# Altium integrated library Circuit Protection -TVSP_rev15a (1).intlib: 320 symbols (part 2 of 4)
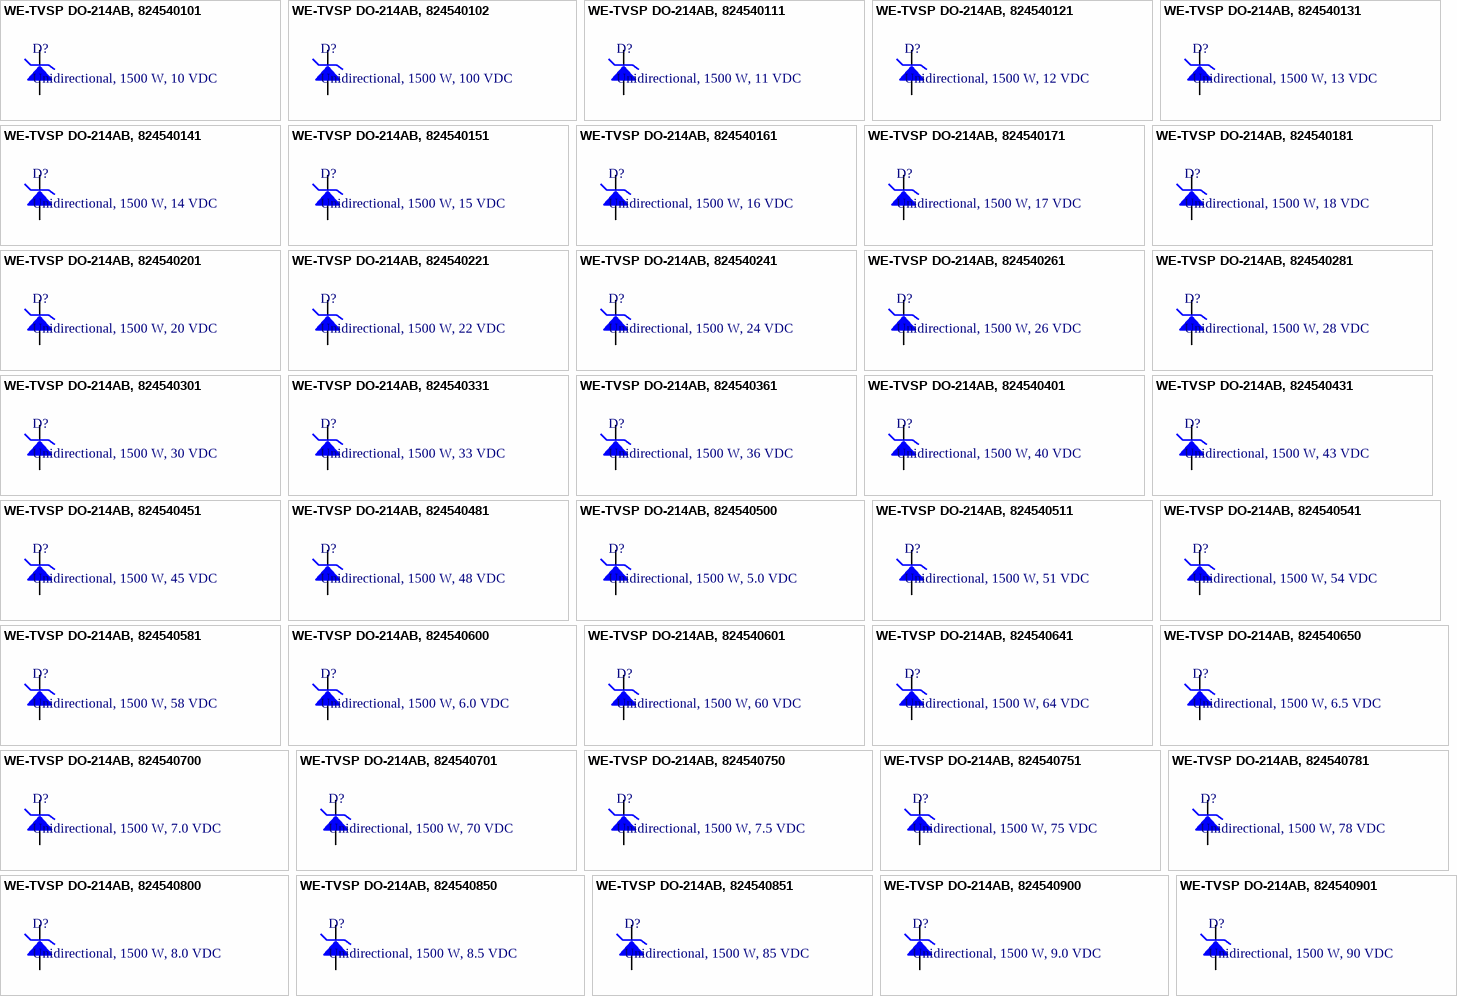
[diagram p8: symbols WE-TVSP DO-214AB, 824540101 to WE-TVSP DO-214AB, 824540901]

## WE-TVSP DO-214AB, 824540500
designator D?, comment Unidirectional, 1500 W, 5.0 VDC
WE-TVSP Power TVS Diode, Unidirectional, 1500 W, 5.0 VDC; partNo: 824540500; Manufacturer: Wurth Elektronik; ComponentLink1Description: Manufacturer; ComponentLink1URL: http://www.we-online.de; Created by: Baojun Chen; Created Date: Nov.2015; ComponentLink2Description: Datasheet; ComponentLink2URL: http://katalog.we-online.de/pbs/datasheet/824540500.pdf
footprint DO-214AB_Unidirectional
pins: 1, 2

## WE-TVSP DO-214AB, 824540511
designator D?, comment Unidirectional, 1500 W, 51 VDC
WE-TVSP Power TVS Diode, Unidirectional, 1500 W, 51 VDC; partNo: 824540511; Manufacturer: Wurth Elektronik; ComponentLink1Description: Manufacturer; ComponentLink1URL: http://www.we-online.de; Created by: Baojun Chen; Created Date: Nov.2015; ComponentLink2Description: Datasheet; ComponentLink2URL: http://katalog.we-online.de/pbs/datasheet/824540511.pdf
footprint DO-214AB_Unidirectional
pins: 1, 2

## WE-TVSP DO-214AB, 824540541
designator D?, comment Unidirectional, 1500 W, 54 VDC
WE-TVSP Power TVS Diode, Unidirectional, 1500 W, 54 VDC; partNo: 824540541; Manufacturer: Wurth Elektronik; ComponentLink1Description: Manufacturer; ComponentLink1URL: http://www.we-online.de; Created by: Baojun Chen; Created Date: Nov.2015; ComponentLink2Description: Datasheet; ComponentLink2URL: http://katalog.we-online.de/pbs/datasheet/824540541.pdf
footprint DO-214AB_Unidirectional
pins: 1, 2

## WE-TVSP DO-214AB, 824540581
designator D?, comment Unidirectional, 1500 W, 58 VDC
WE-TVSP Power TVS Diode, Unidirectional, 1500 W, 58 VDC; partNo: 824540581; Manufacturer: Wurth Elektronik; ComponentLink1Description: Manufacturer; ComponentLink1URL: http://www.we-online.de; Created by: Baojun Chen; Created Date: Nov.2015; ComponentLink2Description: Datasheet; ComponentLink2URL: http://katalog.we-online.de/pbs/datasheet/824540581.pdf
footprint DO-214AB_Unidirectional
pins: 1, 2

## WE-TVSP DO-214AB, 824540600
designator D?, comment Unidirectional, 1500 W, 6.0 VDC
WE-TVSP Power TVS Diode, Unidirectional, 1500 W, 6.0 VDC; partNo: 824540600; Manufacturer: Wurth Elektronik; ComponentLink1Description: Manufacturer; ComponentLink1URL: http://www.we-online.de; Created by: Baojun Chen; Created Date: Nov.2015; ComponentLink2Description: Datasheet; ComponentLink2URL: http://katalog.we-online.de/pbs/datasheet/824540600.pdf
footprint DO-214AB_Unidirectional
pins: 1, 2

## WE-TVSP DO-214AB, 824540601
designator D?, comment Unidirectional, 1500 W, 60 VDC
WE-TVSP Power TVS Diode, Unidirectional, 1500 W, 60 VDC; partNo: 824540601; Manufacturer: Wurth Elektronik; ComponentLink1Description: Manufacturer; ComponentLink1URL: http://www.we-online.de; Created by: Baojun Chen; Created Date: Nov.2015; ComponentLink2Description: Datasheet; ComponentLink2URL: http://katalog.we-online.de/pbs/datasheet/824540601.pdf
footprint DO-214AB_Unidirectional
pins: 1, 2

## WE-TVSP DO-214AB, 824540641
designator D?, comment Unidirectional, 1500 W, 64 VDC
WE-TVSP Power TVS Diode, Unidirectional, 1500 W, 64 VDC; partNo: 824540641; Manufacturer: Wurth Elektronik; ComponentLink1Description: Manufacturer; ComponentLink1URL: http://www.we-online.de; Created by: Baojun Chen; Created Date: Nov.2015; ComponentLink2Description: Datasheet; ComponentLink2URL: http://katalog.we-online.de/pbs/datasheet/824540641.pdf
footprint DO-214AB_Unidirectional
pins: 1, 2

## WE-TVSP DO-214AB, 824540650
designator D?, comment Unidirectional, 1500 W, 6.5 VDC
WE-TVSP Power TVS Diode, Unidirectional, 1500 W, 6.5 VDC; partNo: 824540650; Manufacturer: Wurth Elektronik; ComponentLink1Description: Manufacturer; ComponentLink1URL: http://www.we-online.de; Created by: Baojun Chen; Created Date: Nov.2015; ComponentLink2Description: Datasheet; ComponentLink2URL: http://katalog.we-online.de/pbs/datasheet/824540650.pdf
footprint DO-214AB_Unidirectional
pins: 1, 2

## WE-TVSP DO-214AB, 824540700
designator D?, comment Unidirectional, 1500 W, 7.0 VDC
WE-TVSP Power TVS Diode, Unidirectional, 1500 W, 7.0 VDC; partNo: 824540700; Manufacturer: Wurth Elektronik; ComponentLink1Description: Manufacturer; ComponentLink1URL: http://www.we-online.de; Created by: Baojun Chen; Created Date: Nov.2015; ComponentLink2Description: Datasheet; ComponentLink2URL: http://katalog.we-online.de/pbs/datasheet/824540700.pdf
footprint DO-214AB_Unidirectional
pins: 1, 2

## WE-TVSP DO-214AB, 824540701
designator D?, comment Unidirectional, 1500 W, 70 VDC
WE-TVSP Power TVS Diode, Unidirectional, 1500 W, 70 VDC; partNo: 824540701; Manufacturer: Wurth Elektronik; ComponentLink1Description: Manufacturer; ComponentLink1URL: http://www.we-online.de; Created by: Baojun Chen; Created Date: Nov.2015; ComponentLink2Description: Datasheet; ComponentLink2URL: http://katalog.we-online.de/pbs/datasheet/824540701.pdf
footprint DO-214AB_Unidirectional
pins: 1, 2

## WE-TVSP DO-214AB, 824540750
designator D?, comment Unidirectional, 1500 W, 7.5 VDC
WE-TVSP Power TVS Diode, Unidirectional, 1500 W, 7.5 VDC; partNo: 824540750; Manufacturer: Wurth Elektronik; ComponentLink1Description: Manufacturer; ComponentLink1URL: http://www.we-online.de; Created by: Baojun Chen; Created Date: Nov.2015; ComponentLink2Description: Datasheet; ComponentLink2URL: http://katalog.we-online.de/pbs/datasheet/824540750.pdf
footprint DO-214AB_Unidirectional
pins: 1, 2

## WE-TVSP DO-214AB, 824540751
designator D?, comment Unidirectional, 1500 W, 75 VDC
WE-TVSP Power TVS Diode, Unidirectional, 1500 W, 75 VDC; partNo: 824540751; Manufacturer: Wurth Elektronik; ComponentLink1Description: Manufacturer; ComponentLink1URL: http://www.we-online.de; Created by: Baojun Chen; Created Date: Nov.2015; ComponentLink2Description: Datasheet; ComponentLink2URL: http://katalog.we-online.de/pbs/datasheet/824540751.pdf
footprint DO-214AB_Unidirectional
pins: 1, 2

## WE-TVSP DO-214AB, 824540781
designator D?, comment Unidirectional, 1500 W, 78 VDC
WE-TVSP Power TVS Diode, Unidirectional, 1500 W, 78 VDC; partNo: 824540781; Manufacturer: Wurth Elektronik; ComponentLink1Description: Manufacturer; ComponentLink1URL: http://www.we-online.de; Created by: Baojun Chen; Created Date: Nov.2015; ComponentLink2Description: Datasheet; ComponentLink2URL: http://katalog.we-online.de/pbs/datasheet/824540781.pdf
footprint DO-214AB_Unidirectional
pins: 1, 2

## WE-TVSP DO-214AB, 824540800
designator D?, comment Unidirectional, 1500 W, 8.0 VDC
WE-TVSP Power TVS Diode, Unidirectional, 1500 W, 8.0 VDC; partNo: 824540800; Manufacturer: Wurth Elektronik; ComponentLink1Description: Manufacturer; ComponentLink1URL: http://www.we-online.de; Created by: Baojun Chen; Created Date: Nov.2015; ComponentLink2Description: Datasheet; ComponentLink2URL: http://katalog.we-online.de/pbs/datasheet/824540800.pdf
footprint DO-214AB_Unidirectional
pins: 1, 2

## WE-TVSP DO-214AB, 824540850
designator D?, comment Unidirectional, 1500 W, 8.5 VDC
WE-TVSP Power TVS Diode, Unidirectional, 1500 W, 8.5 VDC; partNo: 824540850; Manufacturer: Wurth Elektronik; ComponentLink1Description: Manufacturer; ComponentLink1URL: http://www.we-online.de; Created by: Baojun Chen; Created Date: Nov.2015; ComponentLink2Description: Datasheet; ComponentLink2URL: http://katalog.we-online.de/pbs/datasheet/824540850.pdf
footprint DO-214AB_Unidirectional
pins: 1, 2

## WE-TVSP DO-214AB, 824540851
designator D?, comment Unidirectional, 1500 W, 85 VDC
WE-TVSP Power TVS Diode, Unidirectional, 1500 W, 85 VDC; partNo: 824540851; Manufacturer: Wurth Elektronik; ComponentLink1Description: Manufacturer; ComponentLink1URL: http://www.we-online.de; Created by: Baojun Chen; Created Date: Nov.2015; ComponentLink2Description: Datasheet; ComponentLink2URL: http://katalog.we-online.de/pbs/datasheet/824540851.pdf
footprint DO-214AB_Unidirectional
pins: 1, 2

## WE-TVSP DO-214AB, 824540900
designator D?, comment Unidirectional, 1500 W, 9.0 VDC
WE-TVSP Power TVS Diode, Unidirectional, 1500 W, 9.0 VDC; partNo: 824540900; Manufacturer: Wurth Elektronik; ComponentLink1Description: Manufacturer; ComponentLink1URL: http://www.we-online.de; Created by: Baojun Chen; Created Date: Nov.2015; ComponentLink2Description: Datasheet; ComponentLink2URL: http://katalog.we-online.de/pbs/datasheet/824540900.pdf
footprint DO-214AB_Unidirectional
pins: 1, 2

## WE-TVSP DO-214AB, 824540901
designator D?, comment Unidirectional, 1500 W, 90 VDC
WE-TVSP Power TVS Diode, Unidirectional, 1500 W, 90 VDC; partNo: 824540901; Manufacturer: Wurth Elektronik; ComponentLink1Description: Manufacturer; ComponentLink1URL: http://www.we-online.de; Created by: Baojun Chen; Created Date: Nov.2015; ComponentLink2Description: Datasheet; ComponentLink2URL: http://katalog.we-online.de/pbs/datasheet/824540901.pdf
footprint DO-214AB_Unidirectional
pins: 1, 2


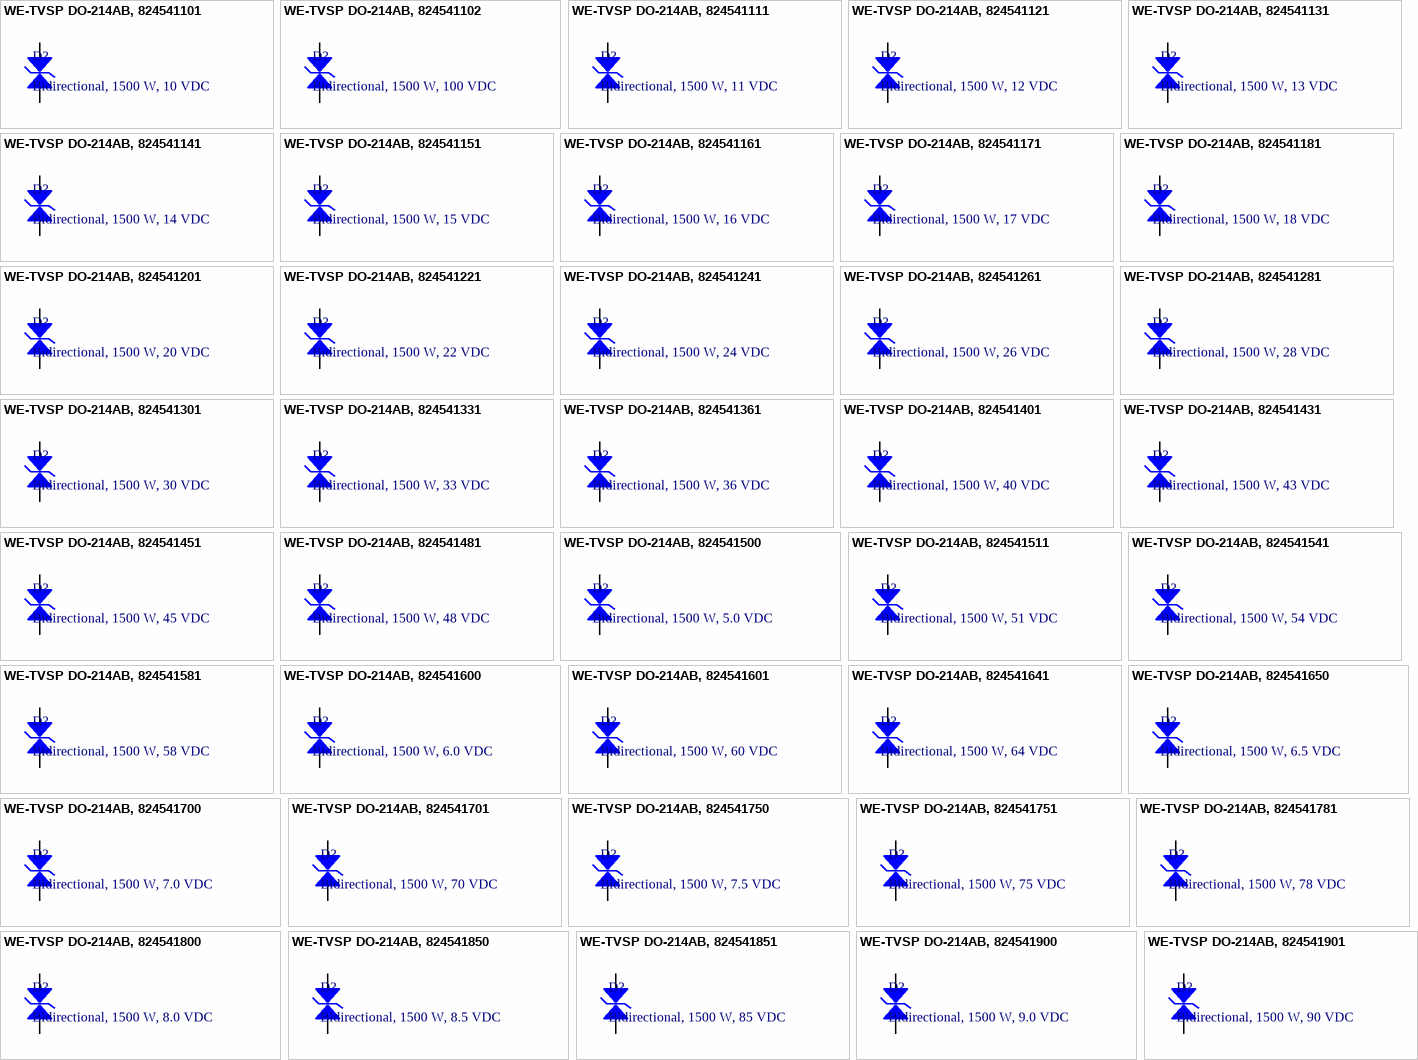
[diagram p3: symbols WE-TVSP DO-214AB, 824541101 to WE-TVSP DO-214AB, 824541901]

## WE-TVSP DO-214AB, 824541101
designator D?, comment Bidirectional, 1500 W, 10 VDC
WE-TVSP Power TVS Diode, bidirectional, 1500 W, 10 VDC; partNo: 824541101; Manufacturer: Wurth Elektronik; ComponentLink1Description: Manufacturer; ComponentLink1URL: http://www.we-online.de; Created by: Baojun Chen; Created Date: Nov.2015; ComponentLink2Description: Datasheet; ComponentLink2URL: http://katalog.we-online.de/pbs/datasheet/824541101.pdf
footprint DO-214AB_Bidirectional
pins: 1, 2

## WE-TVSP DO-214AB, 824541102
designator D?, comment Bidirectional, 1500 W, 100 VDC
WE-TVSP Power TVS Diode, bidirectional, 1500 W, 100 VDC; partNo: 824541102; Manufacturer: Wurth Elektronik; ComponentLink1Description: Manufacturer; ComponentLink1URL: http://www.we-online.de; Created by: Baojun Chen; Created Date: Nov.2015; ComponentLink2Description: Datasheet; ComponentLink2URL: http://katalog.we-online.de/pbs/datasheet/824541102.pdf
footprint DO-214AB_Bidirectional
pins: 1, 2

## WE-TVSP DO-214AB, 824541111
designator D?, comment Bidirectional, 1500 W, 11 VDC
WE-TVSP Power TVS Diode, bidirectional, 1500 W, 11 VDC; partNo: 824541111; Manufacturer: Wurth Elektronik; ComponentLink1Description: Manufacturer; ComponentLink1URL: http://www.we-online.de; Created by: Baojun Chen; Created Date: Nov.2015; ComponentLink2Description: Datasheet; ComponentLink2URL: http://katalog.we-online.de/pbs/datasheet/824541111.pdf
footprint DO-214AB_Bidirectional
pins: 1, 2

## WE-TVSP DO-214AB, 824541121
designator D?, comment Bidirectional, 1500 W, 12 VDC
WE-TVSP Power TVS Diode, bidirectional, 1500 W, 12 VDC; partNo: 824541121; Manufacturer: Wurth Elektronik; ComponentLink1Description: Manufacturer; ComponentLink1URL: http://www.we-online.de; Created by: Baojun Chen; Created Date: Nov.2015; ComponentLink2Description: Datasheet; ComponentLink2URL: http://katalog.we-online.de/pbs/datasheet/824541121.pdf
footprint DO-214AB_Bidirectional
pins: 1, 2

## WE-TVSP DO-214AB, 824541131
designator D?, comment Bidirectional, 1500 W, 13 VDC
WE-TVSP Power TVS Diode, bidirectional, 1500 W, 13 VDC; partNo: 824541131; Manufacturer: Wurth Elektronik; ComponentLink1Description: Manufacturer; ComponentLink1URL: http://www.we-online.de; Created by: Baojun Chen; Created Date: Nov.2015; ComponentLink2Description: Datasheet; ComponentLink2URL: http://katalog.we-online.de/pbs/datasheet/824541131.pdf
footprint DO-214AB_Bidirectional
pins: 1, 2

## WE-TVSP DO-214AB, 824541141
designator D?, comment Bidirectional, 1500 W, 14 VDC
WE-TVSP Power TVS Diode, bidirectional, 1500 W, 14 VDC; partNo: 824541141; Manufacturer: Wurth Elektronik; ComponentLink1Description: Manufacturer; ComponentLink1URL: http://www.we-online.de; Created by: Baojun Chen; Created Date: Nov.2015; ComponentLink2Description: Datasheet; ComponentLink2URL: http://katalog.we-online.de/pbs/datasheet/824541141.pdf
footprint DO-214AB_Bidirectional
pins: 1, 2

## WE-TVSP DO-214AB, 824541151
designator D?, comment Bidirectional, 1500 W, 15 VDC
WE-TVSP Power TVS Diode, bidirectional, 1500 W, 15 VDC; partNo: 824541151; Manufacturer: Wurth Elektronik; ComponentLink1Description: Manufacturer; ComponentLink1URL: http://www.we-online.de; Created by: Baojun Chen; Created Date: Nov.2015; ComponentLink2Description: Datasheet; ComponentLink2URL: http://katalog.we-online.de/pbs/datasheet/824541151.pdf
footprint DO-214AB_Bidirectional
pins: 1, 2

## WE-TVSP DO-214AB, 824541161
designator D?, comment Bidirectional, 1500 W, 16 VDC
WE-TVSP Power TVS Diode, bidirectional, 1500 W, 16 VDC; partNo: 824541161; Manufacturer: Wurth Elektronik; ComponentLink1Description: Manufacturer; ComponentLink1URL: http://www.we-online.de; Created by: Baojun Chen; Created Date: Nov.2015; ComponentLink2Description: Datasheet; ComponentLink2URL: http://katalog.we-online.de/pbs/datasheet/824541161.pdf
footprint DO-214AB_Bidirectional
pins: 1, 2

## WE-TVSP DO-214AB, 824541171
designator D?, comment Bidirectional, 1500 W, 17 VDC
WE-TVSP Power TVS Diode, bidirectional, 1500 W, 17 VDC; partNo: 824541171; Manufacturer: Wurth Elektronik; ComponentLink1Description: Manufacturer; ComponentLink1URL: http://www.we-online.de; Created by: Baojun Chen; Created Date: Nov.2015; ComponentLink2Description: Datasheet; ComponentLink2URL: http://katalog.we-online.de/pbs/datasheet/824541171.pdf
footprint DO-214AB_Bidirectional
pins: 1, 2

## WE-TVSP DO-214AB, 824541181
designator D?, comment Bidirectional, 1500 W, 18 VDC
WE-TVSP Power TVS Diode, bidirectional, 1500 W, 18 VDC; partNo: 824541181; Manufacturer: Wurth Elektronik; ComponentLink1Description: Manufacturer; ComponentLink1URL: http://www.we-online.de; Created by: Baojun Chen; Created Date: Nov.2015; ComponentLink2Description: Datasheet; ComponentLink2URL: http://katalog.we-online.de/pbs/datasheet/824541181.pdf
footprint DO-214AB_Bidirectional
pins: 1, 2

## WE-TVSP DO-214AB, 824541201
designator D?, comment Bidirectional, 1500 W, 20 VDC
WE-TVSP Power TVS Diode, bidirectional, 1500 W, 20 VDC; partNo: 824541201; Manufacturer: Wurth Elektronik; ComponentLink1Description: Manufacturer; ComponentLink1URL: http://www.we-online.de; Created by: Baojun Chen; Created Date: Nov.2015; ComponentLink2Description: Datasheet; ComponentLink2URL: http://katalog.we-online.de/pbs/datasheet/824541201.pdf
footprint DO-214AB_Bidirectional
pins: 1, 2

## WE-TVSP DO-214AB, 824541221
designator D?, comment Bidirectional, 1500 W, 22 VDC
WE-TVSP Power TVS Diode, bidirectional, 1500 W, 22 VDC; partNo: 824541221; Manufacturer: Wurth Elektronik; ComponentLink1Description: Manufacturer; ComponentLink1URL: http://www.we-online.de; Created by: Baojun Chen; Created Date: Nov.2015; ComponentLink2Description: Datasheet; ComponentLink2URL: http://katalog.we-online.de/pbs/datasheet/824541221.pdf
footprint DO-214AB_Bidirectional
pins: 1, 2

## WE-TVSP DO-214AB, 824541241
designator D?, comment Bidirectional, 1500 W, 24 VDC
WE-TVSP Power TVS Diode, bidirectional, 1500 W, 24 VDC; partNo: 824541241; Manufacturer: Wurth Elektronik; ComponentLink1Description: Manufacturer; ComponentLink1URL: http://www.we-online.de; Created by: Baojun Chen; Created Date: Nov.2015; ComponentLink2Description: Datasheet; ComponentLink2URL: http://katalog.we-online.de/pbs/datasheet/824541241.pdf
footprint DO-214AB_Bidirectional
pins: 1, 2

## WE-TVSP DO-214AB, 824541261
designator D?, comment Bidirectional, 1500 W, 26 VDC
WE-TVSP Power TVS Diode, bidirectional, 1500 W, 26 VDC; partNo: 824541261; Manufacturer: Wurth Elektronik; ComponentLink1Description: Manufacturer; ComponentLink1URL: http://www.we-online.de; Created by: Baojun Chen; Created Date: Nov.2015; ComponentLink2Description: Datasheet; ComponentLink2URL: http://katalog.we-online.de/pbs/datasheet/824541261.pdf
footprint DO-214AB_Bidirectional
pins: 1, 2

## WE-TVSP DO-214AB, 824541281
designator D?, comment Bidirectional, 1500 W, 28 VDC
WE-TVSP Power TVS Diode, bidirectional, 1500 W, 28 VDC; partNo: 824541281; Manufacturer: Wurth Elektronik; ComponentLink1Description: Manufacturer; ComponentLink1URL: http://www.we-online.de; Created by: Baojun Chen; Created Date: Nov.2015; ComponentLink2Description: Datasheet; ComponentLink2URL: http://katalog.we-online.de/pbs/datasheet/824541281.pdf
footprint DO-214AB_Bidirectional
pins: 1, 2

## WE-TVSP DO-214AB, 824541301
designator D?, comment Bidirectional, 1500 W, 30 VDC
WE-TVSP Power TVS Diode, bidirectional, 1500 W, 30 VDC; partNo: 824541301; Manufacturer: Wurth Elektronik; ComponentLink1Description: Manufacturer; ComponentLink1URL: http://www.we-online.de; Created by: Baojun Chen; Created Date: Nov.2015; ComponentLink2Description: Datasheet; ComponentLink2URL: http://katalog.we-online.de/pbs/datasheet/824541301.pdf
footprint DO-214AB_Bidirectional
pins: 1, 2

## WE-TVSP DO-214AB, 824541331
designator D?, comment Bidirectional, 1500 W, 33 VDC
WE-TVSP Power TVS Diode, bidirectional, 1500 W, 33 VDC; partNo: 824541331; Manufacturer: Wurth Elektronik; ComponentLink1Description: Manufacturer; ComponentLink1URL: http://www.we-online.de; Created by: Baojun Chen; Created Date: Nov.2015; ComponentLink2Description: Datasheet; ComponentLink2URL: http://katalog.we-online.de/pbs/datasheet/824541331.pdf
footprint DO-214AB_Bidirectional
pins: 1, 2

## WE-TVSP DO-214AB, 824541361
designator D?, comment Bidirectional, 1500 W, 36 VDC
WE-TVSP Power TVS Diode, bidirectional, 1500 W, 36 VDC; partNo: 824541361; Manufacturer: Wurth Elektronik; ComponentLink1Description: Manufacturer; ComponentLink1URL: http://www.we-online.de; Created by: Baojun Chen; Created Date: Nov.2015; ComponentLink2Description: Datasheet; ComponentLink2URL: http://katalog.we-online.de/pbs/datasheet/824541361.pdf
footprint DO-214AB_Bidirectional
pins: 1, 2

## WE-TVSP DO-214AB, 824541401
designator D?, comment Bidirectional, 1500 W, 40 VDC
WE-TVSP Power TVS Diode, bidirectional, 1500 W, 40 VDC; partNo: 824541401; Manufacturer: Wurth Elektronik; ComponentLink1Description: Manufacturer; ComponentLink1URL: http://www.we-online.de; Created by: Baojun Chen; Created Date: Nov.2015; ComponentLink2Description: Datasheet; ComponentLink2URL: http://katalog.we-online.de/pbs/datasheet/824541401.pdf
footprint DO-214AB_Bidirectional
pins: 1, 2

## WE-TVSP DO-214AB, 824541431
designator D?, comment Bidirectional, 1500 W, 43 VDC
WE-TVSP Power TVS Diode, bidirectional, 1500 W, 43 VDC; partNo: 824541431; Manufacturer: Wurth Elektronik; ComponentLink1Description: Manufacturer; ComponentLink1URL: http://www.we-online.de; Created by: Baojun Chen; Created Date: Nov.2015; ComponentLink2Description: Datasheet; ComponentLink2URL: http://katalog.we-online.de/pbs/datasheet/824541431.pdf
footprint DO-214AB_Bidirectional
pins: 1, 2

## WE-TVSP DO-214AB, 824541451
designator D?, comment Bidirectional, 1500 W, 45 VDC
WE-TVSP Power TVS Diode, bidirectional, 1500 W, 45 VDC; partNo: 824541451; Manufacturer: Wurth Elektronik; ComponentLink1Description: Manufacturer; ComponentLink1URL: http://www.we-online.de; Created by: Baojun Chen; Created Date: Nov.2015; ComponentLink2Description: Datasheet; ComponentLink2URL: http://katalog.we-online.de/pbs/datasheet/824541451.pdf
footprint DO-214AB_Bidirectional
pins: 1, 2

## WE-TVSP DO-214AB, 824541481
designator D?, comment Bidirectional, 1500 W, 48 VDC
WE-TVSP Power TVS Diode, bidirectional, 1500 W, 48 VDC; partNo: 824541481; Manufacturer: Wurth Elektronik; ComponentLink1Description: Manufacturer; ComponentLink1URL: http://www.we-online.de; Created by: Baojun Chen; Created Date: Nov.2015; ComponentLink2Description: Datasheet; ComponentLink2URL: http://katalog.we-online.de/pbs/datasheet/824541481.pdf
footprint DO-214AB_Bidirectional
pins: 1, 2

## WE-TVSP DO-214AB, 824541500
designator D?, comment Bidirectional, 1500 W, 5.0 VDC
WE-TVSP Power TVS Diode, bidirectional, 1500 W, 5.0 VDC; partNo: 824541500; Manufacturer: Wurth Elektronik; ComponentLink1Description: Manufacturer; ComponentLink1URL: http://www.we-online.de; Created by: Baojun Chen; Created Date: Nov.2015; ComponentLink2Description: Datasheet; ComponentLink2URL: http://katalog.we-online.de/pbs/datasheet/824541500.pdf
footprint DO-214AB_Bidirectional
pins: 1, 2

## WE-TVSP DO-214AB, 824541511
designator D?, comment Bidirectional, 1500 W, 51 VDC
WE-TVSP Power TVS Diode, bidirectional, 1500 W, 51 VDC; partNo: 824541511; Manufacturer: Wurth Elektronik; ComponentLink1Description: Manufacturer; ComponentLink1URL: http://www.we-online.de; Created by: Baojun Chen; Created Date: Nov.2015; ComponentLink2Description: Datasheet; ComponentLink2URL: http://katalog.we-online.de/pbs/datasheet/824541511.pdf
footprint DO-214AB_Bidirectional
pins: 1, 2

## WE-TVSP DO-214AB, 824541541
designator D?, comment Bidirectional, 1500 W, 54 VDC
WE-TVSP Power TVS Diode, bidirectional, 1500 W, 54 VDC; partNo: 824541541; Manufacturer: Wurth Elektronik; ComponentLink1Description: Manufacturer; ComponentLink1URL: http://www.we-online.de; Created by: Baojun Chen; Created Date: Nov.2015; ComponentLink2Description: Datasheet; ComponentLink2URL: http://katalog.we-online.de/pbs/datasheet/824541541.pdf
footprint DO-214AB_Bidirectional
pins: 1, 2

## WE-TVSP DO-214AB, 824541581
designator D?, comment Bidirectional, 1500 W, 58 VDC
WE-TVSP Power TVS Diode, bidirectional, 1500 W, 58 VDC; partNo: 824541581; Manufacturer: Wurth Elektronik; ComponentLink1Description: Manufacturer; ComponentLink1URL: http://www.we-online.de; Created by: Baojun Chen; Created Date: Nov.2015; ComponentLink2Description: Datasheet; ComponentLink2URL: http://katalog.we-online.de/pbs/datasheet/824541581.pdf
footprint DO-214AB_Bidirectional
pins: 1, 2

## WE-TVSP DO-214AB, 824541600
designator D?, comment Bidirectional, 1500 W, 6.0 VDC
WE-TVSP Power TVS Diode, bidirectional, 1500 W, 6.0 VDC; partNo: 824541600; Manufacturer: Wurth Elektronik; ComponentLink1Description: Manufacturer; ComponentLink1URL: http://www.we-online.de; Created by: Baojun Chen; Created Date: Nov.2015; ComponentLink2Description: Datasheet; ComponentLink2URL: http://katalog.we-online.de/pbs/datasheet/824541600.pdf
footprint DO-214AB_Bidirectional
pins: 1, 2

## WE-TVSP DO-214AB, 824541601
designator D?, comment Bidirectional, 1500 W, 60 VDC
WE-TVSP Power TVS Diode, bidirectional, 1500 W, 60 VDC; partNo: 824541601; Manufacturer: Wurth Elektronik; ComponentLink1Description: Manufacturer; ComponentLink1URL: http://www.we-online.de; Created by: Baojun Chen; Created Date: Nov.2015; ComponentLink2Description: Datasheet; ComponentLink2URL: http://katalog.we-online.de/pbs/datasheet/824541601.pdf
footprint DO-214AB_Bidirectional
pins: 1, 2

## WE-TVSP DO-214AB, 824541641
designator D?, comment Bidirectional, 1500 W, 64 VDC
WE-TVSP Power TVS Diode, bidirectional, 1500 W, 64 VDC; partNo: 824541641; Manufacturer: Wurth Elektronik; ComponentLink1Description: Manufacturer; ComponentLink1URL: http://www.we-online.de; Created by: Baojun Chen; Created Date: Nov.2015; ComponentLink2Description: Datasheet; ComponentLink2URL: http://katalog.we-online.de/pbs/datasheet/824541641.pdf
footprint DO-214AB_Bidirectional
pins: 1, 2

## WE-TVSP DO-214AB, 824541650
designator D?, comment Bidirectional, 1500 W, 6.5 VDC
WE-TVSP Power TVS Diode, bidirectional, 1500 W, 6.5 VDC; partNo: 824541650; Manufacturer: Wurth Elektronik; ComponentLink1Description: Manufacturer; ComponentLink1URL: http://www.we-online.de; Created by: Baojun Chen; Created Date: Nov.2015; ComponentLink2Description: Datasheet; ComponentLink2URL: http://katalog.we-online.de/pbs/datasheet/824541650.pdf
footprint DO-214AB_Bidirectional
pins: 1, 2

## WE-TVSP DO-214AB, 824541700
designator D?, comment Bidirectional, 1500 W, 7.0 VDC
WE-TVSP Power TVS Diode, bidirectional, 1500 W, 7.0 VDC; partNo: 824541700; Manufacturer: Wurth Elektronik; ComponentLink1Description: Manufacturer; ComponentLink1URL: http://www.we-online.de; Created by: Baojun Chen; Created Date: Nov.2015; ComponentLink2Description: Datasheet; ComponentLink2URL: http://katalog.we-online.de/pbs/datasheet/824541700.pdf
footprint DO-214AB_Bidirectional
pins: 1, 2

## WE-TVSP DO-214AB, 824541701
designator D?, comment Bidirectional, 1500 W, 70 VDC
WE-TVSP Power TVS Diode, bidirectional, 1500 W, 70 VDC; partNo: 824541701; Manufacturer: Wurth Elektronik; ComponentLink1Description: Manufacturer; ComponentLink1URL: http://www.we-online.de; Created by: Baojun Chen; Created Date: Nov.2015; ComponentLink2Description: Datasheet; ComponentLink2URL: http://katalog.we-online.de/pbs/datasheet/824541701.pdf
footprint DO-214AB_Bidirectional
pins: 1, 2

## WE-TVSP DO-214AB, 824541750
designator D?, comment Bidirectional, 1500 W, 7.5 VDC
WE-TVSP Power TVS Diode, bidirectional, 1500 W, 7.5 VDC; partNo: 824541750; Manufacturer: Wurth Elektronik; ComponentLink1Description: Manufacturer; ComponentLink1URL: http://www.we-online.de; Created by: Baojun Chen; Created Date: Nov.2015; ComponentLink2Description: Datasheet; ComponentLink2URL: http://katalog.we-online.de/pbs/datasheet/824541750.pdf
footprint DO-214AB_Bidirectional
pins: 1, 2

## WE-TVSP DO-214AB, 824541751
designator D?, comment Bidirectional, 1500 W, 75 VDC
WE-TVSP Power TVS Diode, bidirectional, 1500 W, 75 VDC; partNo: 824541751; Manufacturer: Wurth Elektronik; ComponentLink1Description: Manufacturer; ComponentLink1URL: http://www.we-online.de; Created by: Baojun Chen; Created Date: Nov.2015; ComponentLink2Description: Datasheet; ComponentLink2URL: http://katalog.we-online.de/pbs/datasheet/824541751.pdf
footprint DO-214AB_Bidirectional
pins: 1, 2

## WE-TVSP DO-214AB, 824541781
designator D?, comment Bidirectional, 1500 W, 78 VDC
WE-TVSP Power TVS Diode, bidirectional, 1500 W, 78 VDC; partNo: 824541781; Manufacturer: Wurth Elektronik; ComponentLink1Description: Manufacturer; ComponentLink1URL: http://www.we-online.de; Created by: Baojun Chen; Created Date: Nov.2015; ComponentLink2Description: Datasheet; ComponentLink2URL: http://katalog.we-online.de/pbs/datasheet/824541781.pdf
footprint DO-214AB_Bidirectional
pins: 1, 2

## WE-TVSP DO-214AB, 824541800
designator D?, comment Bidirectional, 1500 W, 8.0 VDC
WE-TVSP Power TVS Diode, bidirectional, 1500 W, 8.0 VDC; partNo: 824541800; Manufacturer: Wurth Elektronik; ComponentLink1Description: Manufacturer; ComponentLink1URL: http://www.we-online.de; Created by: Baojun Chen; Created Date: Nov.2015; ComponentLink2Description: Datasheet; ComponentLink2URL: http://katalog.we-online.de/pbs/datasheet/824541800.pdf
footprint DO-214AB_Bidirectional
pins: 1, 2

## WE-TVSP DO-214AB, 824541850
designator D?, comment Bidirectional, 1500 W, 8.5 VDC
WE-TVSP Power TVS Diode, bidirectional, 1500 W, 8.5 VDC; partNo: 824541850; Manufacturer: Wurth Elektronik; ComponentLink1Description: Manufacturer; ComponentLink1URL: http://www.we-online.de; Created by: Baojun Chen; Created Date: Nov.2015; ComponentLink2Description: Datasheet; ComponentLink2URL: http://katalog.we-online.de/pbs/datasheet/824541850.pdf
footprint DO-214AB_Bidirectional
pins: 1, 2

## WE-TVSP DO-214AB, 824541851
designator D?, comment Bidirectional, 1500 W, 85 VDC
WE-TVSP Power TVS Diode, bidirectional, 1500 W, 85 VDC; partNo: 824541851; Manufacturer: Wurth Elektronik; ComponentLink1Description: Manufacturer; ComponentLink1URL: http://www.we-online.de; Created by: Baojun Chen; Created Date: Nov.2015; ComponentLink2Description: Datasheet; ComponentLink2URL: http://katalog.we-online.de/pbs/datasheet/824541851.pdf
footprint DO-214AB_Bidirectional
pins: 1, 2

## WE-TVSP DO-214AB, 824541900
designator D?, comment Bidirectional, 1500 W, 9.0 VDC
WE-TVSP Power TVS Diode, bidirectional, 1500 W, 9.0 VDC; partNo: 824541900; Manufacturer: Wurth Elektronik; ComponentLink1Description: Manufacturer; ComponentLink1URL: http://www.we-online.de; Created by: Baojun Chen; Created Date: Nov.2015; ComponentLink2Description: Datasheet; ComponentLink2URL: http://katalog.we-online.de/pbs/datasheet/824541900.pdf
footprint DO-214AB_Bidirectional
pins: 1, 2

## WE-TVSP DO-214AB, 824541901
designator D?, comment Bidirectional, 1500 W, 90 VDC
WE-TVSP Power TVS Diode, bidirectional, 1500 W, 90 VDC; partNo: 824541901; Manufacturer: Wurth Elektronik; ComponentLink1Description: Manufacturer; ComponentLink1URL: http://www.we-online.de; Created by: Baojun Chen; Created Date: Nov.2015; ComponentLink2Description: Datasheet; ComponentLink2URL: http://katalog.we-online.de/pbs/datasheet/824541901.pdf
footprint DO-214AB_Bidirectional
pins: 1, 2


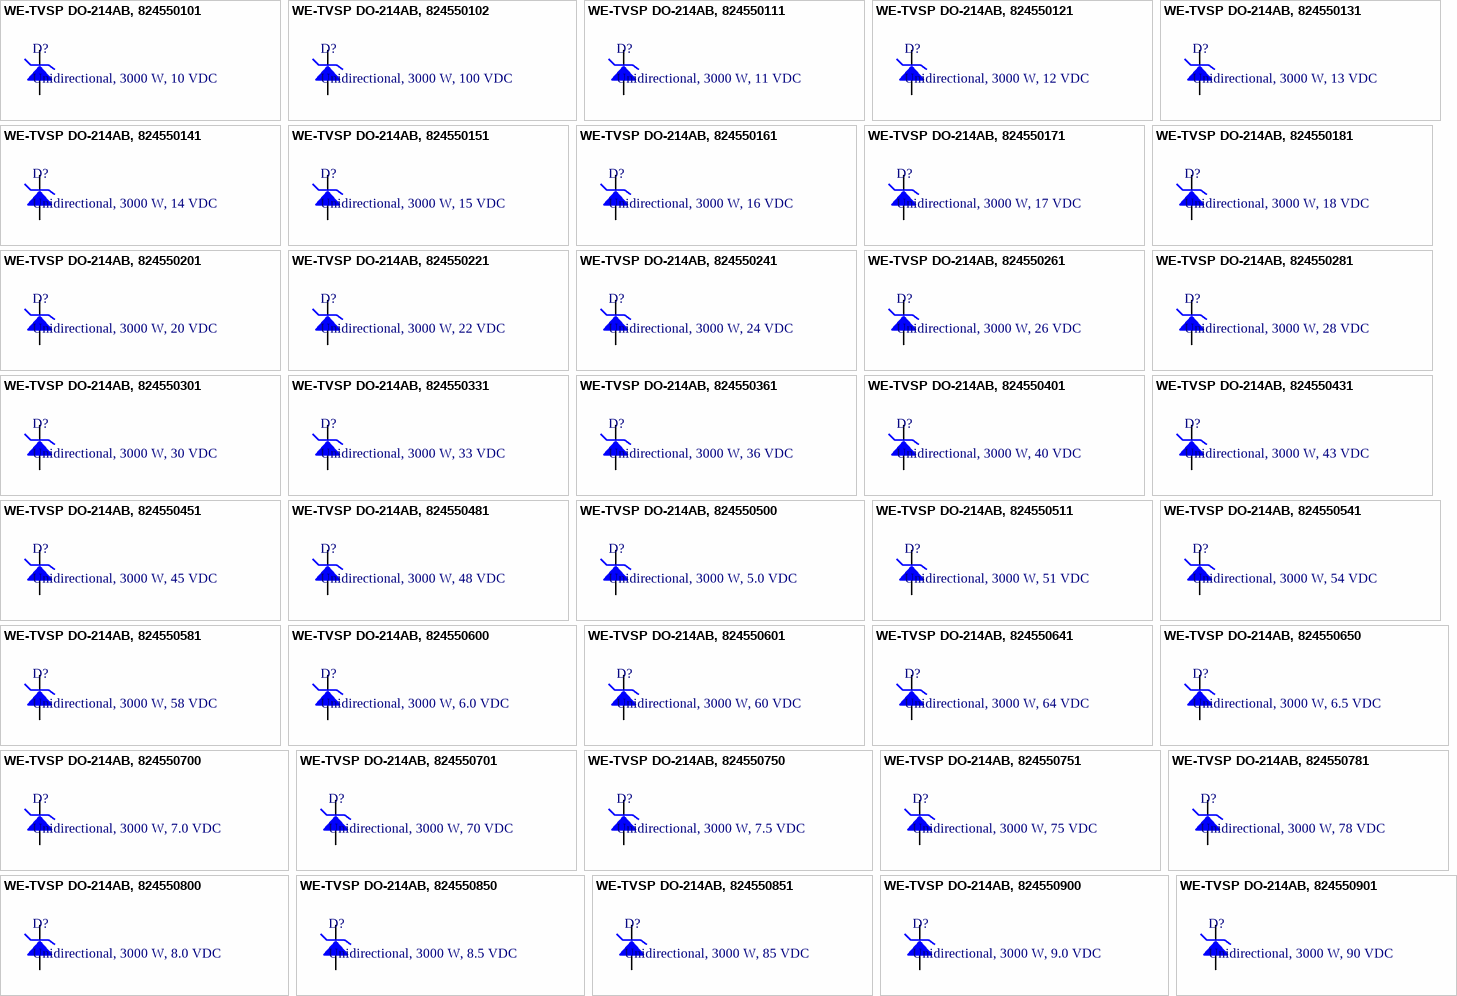
[diagram p4: symbols WE-TVSP DO-214AB, 824550101 to WE-TVSP DO-214AB, 824550901]

## WE-TVSP DO-214AB, 824550101
designator D?, comment Unidirectional, 3000 W, 10 VDC
WE-TVSP Power TVS Diode, Unidirectional, 3000 W, 10 VDC; partNo: 824550101; Manufacturer: Wurth Elektronik; ComponentLink1Description: Manufacturer; ComponentLink1URL: http://www.we-online.de; Created by: Baojun Chen; Created Date: Nov.2015; ComponentLink2Description: Datasheet; ComponentLink2URL: http://katalog.we-online.de/pbs/datasheet/824550101.pdf
footprint DO-214AB_Bidirectional
pins: 1, 2

## WE-TVSP DO-214AB, 824550102
designator D?, comment Unidirectional, 3000 W, 100 VDC
WE-TVSP Power TVS Diode, Unidirectional, 3000 W, 100 VDC; partNo: 824550102; Manufacturer: Wurth Elektronik; ComponentLink1Description: Manufacturer; ComponentLink1URL: http://www.we-online.de; Created by: Baojun Chen; Created Date: Nov.2015; ComponentLink2Description: Datasheet; ComponentLink2URL: http://katalog.we-online.de/pbs/datasheet/824550102.pdf
footprint DO-214AB_Bidirectional
pins: 1, 2

## WE-TVSP DO-214AB, 824550111
designator D?, comment Unidirectional, 3000 W, 11 VDC
WE-TVSP Power TVS Diode, Unidirectional, 3000 W, 11 VDC; partNo: 824550111; Manufacturer: Wurth Elektronik; ComponentLink1Description: Manufacturer; ComponentLink1URL: http://www.we-online.de; Created by: Baojun Chen; Created Date: Nov.2015; ComponentLink2Description: Datasheet; ComponentLink2URL: http://katalog.we-online.de/pbs/datasheet/824550111.pdf
footprint DO-214AB_Bidirectional
pins: 1, 2

## WE-TVSP DO-214AB, 824550121
designator D?, comment Unidirectional, 3000 W, 12 VDC
WE-TVSP Power TVS Diode, Unidirectional, 3000 W, 12 VDC; partNo: 824550121; Manufacturer: Wurth Elektronik; ComponentLink1Description: Manufacturer; ComponentLink1URL: http://www.we-online.de; Created by: Baojun Chen; Created Date: Nov.2015; ComponentLink2Description: Datasheet; ComponentLink2URL: http://katalog.we-online.de/pbs/datasheet/824550121.pdf
footprint DO-214AB_Bidirectional
pins: 1, 2

## WE-TVSP DO-214AB, 824550131
designator D?, comment Unidirectional, 3000 W, 13 VDC
WE-TVSP Power TVS Diode, Unidirectional, 3000 W, 13 VDC; partNo: 824550131; Manufacturer: Wurth Elektronik; ComponentLink1Description: Manufacturer; ComponentLink1URL: http://www.we-online.de; Created by: Baojun Chen; Created Date: Nov.2015; ComponentLink2Description: Datasheet; ComponentLink2URL: http://katalog.we-online.de/pbs/datasheet/824550131.pdf
footprint DO-214AB_Bidirectional
pins: 1, 2

## WE-TVSP DO-214AB, 824550141
designator D?, comment Unidirectional, 3000 W, 14 VDC
WE-TVSP Power TVS Diode, Unidirectional, 3000 W, 14 VDC; partNo: 824550141; Manufacturer: Wurth Elektronik; ComponentLink1Description: Manufacturer; ComponentLink1URL: http://www.we-online.de; Created by: Baojun Chen; Created Date: Nov.2015; ComponentLink2Description: Datasheet; ComponentLink2URL: http://katalog.we-online.de/pbs/datasheet/824550141.pdf
footprint DO-214AB_Bidirectional
pins: 1, 2

## WE-TVSP DO-214AB, 824550151
designator D?, comment Unidirectional, 3000 W, 15 VDC
WE-TVSP Power TVS Diode, Unidirectional, 3000 W, 15 VDC; partNo: 824550151; Manufacturer: Wurth Elektronik; ComponentLink1Description: Manufacturer; ComponentLink1URL: http://www.we-online.de; Created by: Baojun Chen; Created Date: Nov.2015; ComponentLink2Description: Datasheet; ComponentLink2URL: http://katalog.we-online.de/pbs/datasheet/824550151.pdf
footprint DO-214AB_Bidirectional
pins: 1, 2

## WE-TVSP DO-214AB, 824550161
designator D?, comment Unidirectional, 3000 W, 16 VDC
WE-TVSP Power TVS Diode, Unidirectional, 3000 W, 16 VDC; partNo: 824550161; Manufacturer: Wurth Elektronik; ComponentLink1Description: Manufacturer; ComponentLink1URL: http://www.we-online.de; Created by: Baojun Chen; Created Date: Nov.2015; ComponentLink2Description: Datasheet; ComponentLink2URL: http://katalog.we-online.de/pbs/datasheet/824550161.pdf
footprint DO-214AB_Bidirectional
pins: 1, 2

## WE-TVSP DO-214AB, 824550171
designator D?, comment Unidirectional, 3000 W, 17 VDC
WE-TVSP Power TVS Diode, Unidirectional, 3000 W, 17 VDC; partNo: 824550171; Manufacturer: Wurth Elektronik; ComponentLink1Description: Manufacturer; ComponentLink1URL: http://www.we-online.de; Created by: Baojun Chen; Created Date: Nov.2015; ComponentLink2Description: Datasheet; ComponentLink2URL: http://katalog.we-online.de/pbs/datasheet/824550171.pdf
footprint DO-214AB_Bidirectional
pins: 1, 2

## WE-TVSP DO-214AB, 824550181
designator D?, comment Unidirectional, 3000 W, 18 VDC
WE-TVSP Power TVS Diode, Unidirectional, 3000 W, 18 VDC; partNo: 824550181; Manufacturer: Wurth Elektronik; ComponentLink1Description: Manufacturer; ComponentLink1URL: http://www.we-online.de; Created by: Baojun Chen; Created Date: Nov.2015; ComponentLink2Description: Datasheet; ComponentLink2URL: http://katalog.we-online.de/pbs/datasheet/824550181.pdf
footprint DO-214AB_Bidirectional
pins: 1, 2

## WE-TVSP DO-214AB, 824550201
designator D?, comment Unidirectional, 3000 W, 20 VDC
WE-TVSP Power TVS Diode, Unidirectional, 3000 W, 20 VDC; partNo: 824550201; Manufacturer: Wurth Elektronik; ComponentLink1Description: Manufacturer; ComponentLink1URL: http://www.we-online.de; Created by: Baojun Chen; Created Date: Nov.2015; ComponentLink2Description: Datasheet; ComponentLink2URL: http://katalog.we-online.de/pbs/datasheet/824550201.pdf
footprint DO-214AB_Bidirectional
pins: 1, 2

## WE-TVSP DO-214AB, 824550221
designator D?, comment Unidirectional, 3000 W, 22 VDC
WE-TVSP Power TVS Diode, Unidirectional, 3000 W, 22 VDC; partNo: 824550221; Manufacturer: Wurth Elektronik; ComponentLink1Description: Manufacturer; ComponentLink1URL: http://www.we-online.de; Created by: Baojun Chen; Created Date: Nov.2015; ComponentLink2Description: Datasheet; ComponentLink2URL: http://katalog.we-online.de/pbs/datasheet/824550221.pdf
footprint DO-214AB_Bidirectional
pins: 1, 2

## WE-TVSP DO-214AB, 824550241
designator D?, comment Unidirectional, 3000 W, 24 VDC
WE-TVSP Power TVS Diode, Unidirectional, 3000 W, 24 VDC; partNo: 824550241; Manufacturer: Wurth Elektronik; ComponentLink1Description: Manufacturer; ComponentLink1URL: http://www.we-online.de; Created by: Baojun Chen; Created Date: Nov.2015; ComponentLink2Description: Datasheet; ComponentLink2URL: http://katalog.we-online.de/pbs/datasheet/824550241.pdf
footprint DO-214AB_Bidirectional
pins: 1, 2

## WE-TVSP DO-214AB, 824550261
designator D?, comment Unidirectional, 3000 W, 26 VDC
WE-TVSP Power TVS Diode, Unidirectional, 3000 W, 26 VDC; partNo: 824550261; Manufacturer: Wurth Elektronik; ComponentLink1Description: Manufacturer; ComponentLink1URL: http://www.we-online.de; Created by: Baojun Chen; Created Date: Nov.2015; ComponentLink2Description: Datasheet; ComponentLink2URL: http://katalog.we-online.de/pbs/datasheet/824550261.pdf
footprint DO-214AB_Bidirectional
pins: 1, 2

## WE-TVSP DO-214AB, 824550281
designator D?, comment Unidirectional, 3000 W, 28 VDC
WE-TVSP Power TVS Diode, Unidirectional, 3000 W, 28 VDC; partNo: 824550281; Manufacturer: Wurth Elektronik; ComponentLink1Description: Manufacturer; ComponentLink1URL: http://www.we-online.de; Created by: Baojun Chen; Created Date: Nov.2015; ComponentLink2Description: Datasheet; ComponentLink2URL: http://katalog.we-online.de/pbs/datasheet/824550281.pdf
footprint DO-214AB_Bidirectional
pins: 1, 2

## WE-TVSP DO-214AB, 824550301
designator D?, comment Unidirectional, 3000 W, 30 VDC
WE-TVSP Power TVS Diode, Unidirectional, 3000 W, 30 VDC; partNo: 824550301; Manufacturer: Wurth Elektronik; ComponentLink1Description: Manufacturer; ComponentLink1URL: http://www.we-online.de; Created by: Baojun Chen; Created Date: Nov.2015; ComponentLink2Description: Datasheet; ComponentLink2URL: http://katalog.we-online.de/pbs/datasheet/824550301.pdf
footprint DO-214AB_Bidirectional
pins: 1, 2

## WE-TVSP DO-214AB, 824550331
designator D?, comment Unidirectional, 3000 W, 33 VDC
WE-TVSP Power TVS Diode, Unidirectional, 3000 W, 33 VDC; partNo: 824550331; Manufacturer: Wurth Elektronik; ComponentLink1Description: Manufacturer; ComponentLink1URL: http://www.we-online.de; Created by: Baojun Chen; Created Date: Nov.2015; ComponentLink2Description: Datasheet; ComponentLink2URL: http://katalog.we-online.de/pbs/datasheet/824550331.pdf
footprint DO-214AB_Bidirectional
pins: 1, 2

## WE-TVSP DO-214AB, 824550361
designator D?, comment Unidirectional, 3000 W, 36 VDC
WE-TVSP Power TVS Diode, Unidirectional, 3000 W, 36 VDC; partNo: 824550361; Manufacturer: Wurth Elektronik; ComponentLink1Description: Manufacturer; ComponentLink1URL: http://www.we-online.de; Created by: Baojun Chen; Created Date: Nov.2015; ComponentLink2Description: Datasheet; ComponentLink2URL: http://katalog.we-online.de/pbs/datasheet/824550361.pdf
footprint DO-214AB_Bidirectional
pins: 1, 2

## WE-TVSP DO-214AB, 824550401
designator D?, comment Unidirectional, 3000 W, 40 VDC
WE-TVSP Power TVS Diode, Unidirectional, 3000 W, 40 VDC; partNo: 824550401; Manufacturer: Wurth Elektronik; ComponentLink1Description: Manufacturer; ComponentLink1URL: http://www.we-online.de; Created by: Baojun Chen; Created Date: Nov.2015; ComponentLink2Description: Datasheet; ComponentLink2URL: http://katalog.we-online.de/pbs/datasheet/824550401.pdf
footprint DO-214AB_Bidirectional
pins: 1, 2

## WE-TVSP DO-214AB, 824550431
designator D?, comment Unidirectional, 3000 W, 43 VDC
WE-TVSP Power TVS Diode, Unidirectional, 3000 W, 43 VDC; partNo: 824550431; Manufacturer: Wurth Elektronik; ComponentLink1Description: Manufacturer; ComponentLink1URL: http://www.we-online.de; Created by: Baojun Chen; Created Date: Nov.2015; ComponentLink2Description: Datasheet; ComponentLink2URL: http://katalog.we-online.de/pbs/datasheet/824550431.pdf
footprint DO-214AB_Bidirectional
pins: 1, 2

## WE-TVSP DO-214AB, 824550451
designator D?, comment Unidirectional, 3000 W, 45 VDC
WE-TVSP Power TVS Diode, Unidirectional, 3000 W, 45 VDC; partNo: 824550451; Manufacturer: Wurth Elektronik; ComponentLink1Description: Manufacturer; ComponentLink1URL: http://www.we-online.de; Created by: Baojun Chen; Created Date: Nov.2015; ComponentLink2Description: Datasheet; ComponentLink2URL: http://katalog.we-online.de/pbs/datasheet/824550451.pdf
footprint DO-214AB_Bidirectional
pins: 1, 2

## WE-TVSP DO-214AB, 824550481
designator D?, comment Unidirectional, 3000 W, 48 VDC
WE-TVSP Power TVS Diode, Unidirectional, 3000 W, 48 VDC; partNo: 824550481; Manufacturer: Wurth Elektronik; ComponentLink1Description: Manufacturer; ComponentLink1URL: http://www.we-online.de; Created by: Baojun Chen; Created Date: Nov.2015; ComponentLink2Description: Datasheet; ComponentLink2URL: http://katalog.we-online.de/pbs/datasheet/824550481.pdf
footprint DO-214AB_Bidirectional
pins: 1, 2

## WE-TVSP DO-214AB, 824550500
designator D?, comment Unidirectional, 3000 W, 5.0 VDC
WE-TVSP Power TVS Diode, Unidirectional, 3000 W, 5.0 VDC; partNo: 824550500; Manufacturer: Wurth Elektronik; ComponentLink1Description: Manufacturer; ComponentLink1URL: http://www.we-online.de; Created by: Baojun Chen; Created Date: Nov.2015; ComponentLink2Description: Datasheet; ComponentLink2URL: http://katalog.we-online.de/pbs/datasheet/824550500.pdf
footprint DO-214AB_Bidirectional
pins: 1, 2

## WE-TVSP DO-214AB, 824550511
designator D?, comment Unidirectional, 3000 W, 51 VDC
WE-TVSP Power TVS Diode, Unidirectional, 3000 W, 51 VDC; partNo: 824550511; Manufacturer: Wurth Elektronik; ComponentLink1Description: Manufacturer; ComponentLink1URL: http://www.we-online.de; Created by: Baojun Chen; Created Date: Nov.2015; ComponentLink2Description: Datasheet; ComponentLink2URL: http://katalog.we-online.de/pbs/datasheet/824550511.pdf
footprint DO-214AB_Bidirectional
pins: 1, 2

## WE-TVSP DO-214AB, 824550541
designator D?, comment Unidirectional, 3000 W, 54 VDC
WE-TVSP Power TVS Diode, Unidirectional, 3000 W, 54 VDC; partNo: 824550541; Manufacturer: Wurth Elektronik; ComponentLink1Description: Manufacturer; ComponentLink1URL: http://www.we-online.de; Created by: Baojun Chen; Created Date: Nov.2015; ComponentLink2Description: Datasheet; ComponentLink2URL: http://katalog.we-online.de/pbs/datasheet/824550541.pdf
footprint DO-214AB_Bidirectional
pins: 1, 2

## WE-TVSP DO-214AB, 824550581
designator D?, comment Unidirectional, 3000 W, 58 VDC
WE-TVSP Power TVS Diode, Unidirectional, 3000 W, 58 VDC; partNo: 824550581; Manufacturer: Wurth Elektronik; ComponentLink1Description: Manufacturer; ComponentLink1URL: http://www.we-online.de; Created by: Baojun Chen; Created Date: Nov.2015; ComponentLink2Description: Datasheet; ComponentLink2URL: http://katalog.we-online.de/pbs/datasheet/824550581.pdf
footprint DO-214AB_Bidirectional
pins: 1, 2

## WE-TVSP DO-214AB, 824550600
designator D?, comment Unidirectional, 3000 W, 6.0 VDC
WE-TVSP Power TVS Diode, Unidirectional, 3000 W, 6.0 VDC; partNo: 824550600; Manufacturer: Wurth Elektronik; ComponentLink1Description: Manufacturer; ComponentLink1URL: http://www.we-online.de; Created by: Baojun Chen; Created Date: Nov.2015; ComponentLink2Description: Datasheet; ComponentLink2URL: http://katalog.we-online.de/pbs/datasheet/824550600.pdf
footprint DO-214AB_Bidirectional
pins: 1, 2

## WE-TVSP DO-214AB, 824550601
designator D?, comment Unidirectional, 3000 W, 60 VDC
WE-TVSP Power TVS Diode, Unidirectional, 3000 W, 60 VDC; partNo: 824550601; Manufacturer: Wurth Elektronik; ComponentLink1Description: Manufacturer; ComponentLink1URL: http://www.we-online.de; Created by: Baojun Chen; Created Date: Nov.2015; ComponentLink2Description: Datasheet; ComponentLink2URL: http://katalog.we-online.de/pbs/datasheet/824550601.pdf
footprint DO-214AB_Bidirectional
pins: 1, 2

## WE-TVSP DO-214AB, 824550641
designator D?, comment Unidirectional, 3000 W, 64 VDC
WE-TVSP Power TVS Diode, Unidirectional, 3000 W, 64 VDC; partNo: 824550641; Manufacturer: Wurth Elektronik; ComponentLink1Description: Manufacturer; ComponentLink1URL: http://www.we-online.de; Created by: Baojun Chen; Created Date: Nov.2015; ComponentLink2Description: Datasheet; ComponentLink2URL: http://katalog.we-online.de/pbs/datasheet/824550641.pdf
footprint DO-214AB_Bidirectional
pins: 1, 2

## WE-TVSP DO-214AB, 824550650
designator D?, comment Unidirectional, 3000 W, 6.5 VDC
WE-TVSP Power TVS Diode, Unidirectional, 3000 W, 6.5 VDC; partNo: 824550650; Manufacturer: Wurth Elektronik; ComponentLink1Description: Manufacturer; ComponentLink1URL: http://www.we-online.de; Created by: Baojun Chen; Created Date: Nov.2015; ComponentLink2Description: Datasheet; ComponentLink2URL: http://katalog.we-online.de/pbs/datasheet/824550650.pdf
footprint DO-214AB_Bidirectional
pins: 1, 2

## WE-TVSP DO-214AB, 824550700
designator D?, comment Unidirectional, 3000 W, 7.0 VDC
WE-TVSP Power TVS Diode, Unidirectional, 3000 W, 7.0 VDC; partNo: 824550700; Manufacturer: Wurth Elektronik; ComponentLink1Description: Manufacturer; ComponentLink1URL: http://www.we-online.de; Created by: Baojun Chen; Created Date: Nov.2015; ComponentLink2Description: Datasheet; ComponentLink2URL: http://katalog.we-online.de/pbs/datasheet/824550700.pdf
footprint DO-214AB_Bidirectional
pins: 1, 2

## WE-TVSP DO-214AB, 824550701
designator D?, comment Unidirectional, 3000 W, 70 VDC
WE-TVSP Power TVS Diode, Unidirectional, 3000 W, 70 VDC; partNo: 824550701; Manufacturer: Wurth Elektronik; ComponentLink1Description: Manufacturer; ComponentLink1URL: http://www.we-online.de; Created by: Baojun Chen; Created Date: Nov.2015; ComponentLink2Description: Datasheet; ComponentLink2URL: http://katalog.we-online.de/pbs/datasheet/824550701.pdf
footprint DO-214AB_Bidirectional
pins: 1, 2

## WE-TVSP DO-214AB, 824550750
designator D?, comment Unidirectional, 3000 W, 7.5 VDC
WE-TVSP Power TVS Diode, Unidirectional, 3000 W, 7.5 VDC; partNo: 824550750; Manufacturer: Wurth Elektronik; ComponentLink1Description: Manufacturer; ComponentLink1URL: http://www.we-online.de; Created by: Baojun Chen; Created Date: Nov.2015; ComponentLink2Description: Datasheet; ComponentLink2URL: http://katalog.we-online.de/pbs/datasheet/824550750.pdf
footprint DO-214AB_Bidirectional
pins: 1, 2

## WE-TVSP DO-214AB, 824550751
designator D?, comment Unidirectional, 3000 W, 75 VDC
WE-TVSP Power TVS Diode, Unidirectional, 3000 W, 75 VDC; partNo: 824550751; Manufacturer: Wurth Elektronik; ComponentLink1Description: Manufacturer; ComponentLink1URL: http://www.we-online.de; Created by: Baojun Chen; Created Date: Nov.2015; ComponentLink2Description: Datasheet; ComponentLink2URL: http://katalog.we-online.de/pbs/datasheet/824550751.pdf
footprint DO-214AB_Bidirectional
pins: 1, 2

## WE-TVSP DO-214AB, 824550781
designator D?, comment Unidirectional, 3000 W, 78 VDC
WE-TVSP Power TVS Diode, Unidirectional, 3000 W, 78 VDC; partNo: 824550781; Manufacturer: Wurth Elektronik; ComponentLink1Description: Manufacturer; ComponentLink1URL: http://www.we-online.de; Created by: Baojun Chen; Created Date: Nov.2015; ComponentLink2Description: Datasheet; ComponentLink2URL: http://katalog.we-online.de/pbs/datasheet/824550781.pdf
footprint DO-214AB_Bidirectional
pins: 1, 2

## WE-TVSP DO-214AB, 824550800
designator D?, comment Unidirectional, 3000 W, 8.0 VDC
WE-TVSP Power TVS Diode, Unidirectional, 3000 W, 8.0 VDC; partNo: 824550800; Manufacturer: Wurth Elektronik; ComponentLink1Description: Manufacturer; ComponentLink1URL: http://www.we-online.de; Created by: Baojun Chen; Created Date: Nov.2015; ComponentLink2Description: Datasheet; ComponentLink2URL: http://katalog.we-online.de/pbs/datasheet/824550800.pdf
footprint DO-214AB_Bidirectional
pins: 1, 2

## WE-TVSP DO-214AB, 824550850
designator D?, comment Unidirectional, 3000 W, 8.5 VDC
WE-TVSP Power TVS Diode, Unidirectional, 3000 W, 8.5 VDC; partNo: 824550850; Manufacturer: Wurth Elektronik; ComponentLink1Description: Manufacturer; ComponentLink1URL: http://www.we-online.de; Created by: Baojun Chen; Created Date: Nov.2015; ComponentLink2Description: Datasheet; ComponentLink2URL: http://katalog.we-online.de/pbs/datasheet/824550850.pdf
footprint DO-214AB_Bidirectional
pins: 1, 2

## WE-TVSP DO-214AB, 824550851
designator D?, comment Unidirectional, 3000 W, 85 VDC
WE-TVSP Power TVS Diode, Unidirectional, 3000 W, 85 VDC; partNo: 824550851; Manufacturer: Wurth Elektronik; ComponentLink1Description: Manufacturer; ComponentLink1URL: http://www.we-online.de; Created by: Baojun Chen; Created Date: Nov.2015; ComponentLink2Description: Datasheet; ComponentLink2URL: http://katalog.we-online.de/pbs/datasheet/824550851.pdf
footprint DO-214AB_Bidirectional
pins: 1, 2

## WE-TVSP DO-214AB, 824550900
designator D?, comment Unidirectional, 3000 W, 9.0 VDC
WE-TVSP Power TVS Diode, Unidirectional, 3000 W, 9.0 VDC; partNo: 824550900; Manufacturer: Wurth Elektronik; ComponentLink1Description: Manufacturer; ComponentLink1URL: http://www.we-online.de; Created by: Baojun Chen; Created Date: Nov.2015; ComponentLink2Description: Datasheet; ComponentLink2URL: http://katalog.we-online.de/pbs/datasheet/824550900.pdf
footprint DO-214AB_Bidirectional
pins: 1, 2

## WE-TVSP DO-214AB, 824550901
designator D?, comment Unidirectional, 3000 W, 90 VDC
WE-TVSP Power TVS Diode, Unidirectional, 3000 W, 90 VDC; partNo: 824550901; Manufacturer: Wurth Elektronik; ComponentLink1Description: Manufacturer; ComponentLink1URL: http://www.we-online.de; Created by: Baojun Chen; Created Date: Nov.2015; ComponentLink2Description: Datasheet; ComponentLink2URL: http://katalog.we-online.de/pbs/datasheet/824550901.pdf
footprint DO-214AB_Bidirectional
pins: 1, 2


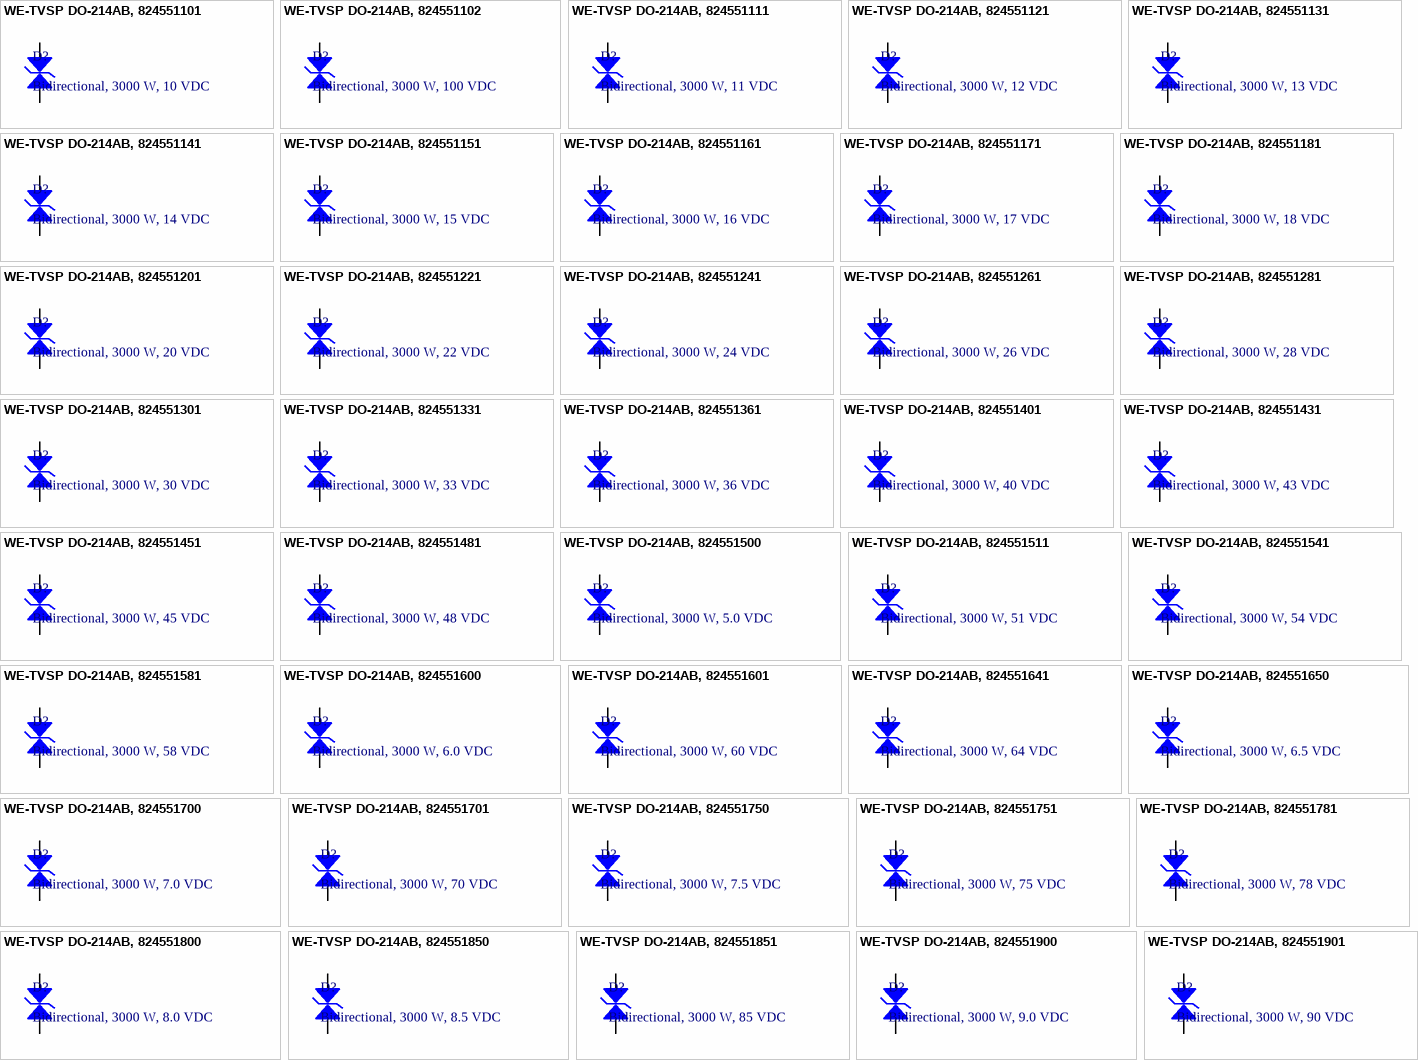
[diagram p5: symbols WE-TVSP DO-214AB, 824551101 to WE-TVSP DO-214AB, 824551901]

## WE-TVSP DO-214AB, 824551101
designator D?, comment Bidirectional, 3000 W, 10 VDC
WE-TVSP Power TVS Diode, bidirectional, 3000 W, 10 VDC; partNo: 824551101; Manufacturer: Wurth Elektronik; ComponentLink1Description: Manufacturer; ComponentLink1URL: http://www.we-online.de; Created by: Baojun Chen; Created Date: Nov.2015; ComponentLink2Description: Datasheet; ComponentLink2URL: http://katalog.we-online.de/pbs/datasheet/824551101.pdf
footprint DO-214AB_Bidirectional
pins: 1, 2

## WE-TVSP DO-214AB, 824551102
designator D?, comment Bidirectional, 3000 W, 100 VDC
WE-TVSP Power TVS Diode, bidirectional, 3000 W, 100 VDC; partNo: 824551102; Manufacturer: Wurth Elektronik; ComponentLink1Description: Manufacturer; ComponentLink1URL: http://www.we-online.de; Created by: Baojun Chen; Created Date: Nov.2015; ComponentLink2Description: Datasheet; ComponentLink2URL: http://katalog.we-online.de/pbs/datasheet/824551102.pdf
footprint DO-214AB_Bidirectional
pins: 1, 2

## WE-TVSP DO-214AB, 824551111
designator D?, comment Bidirectional, 3000 W, 11 VDC
WE-TVSP Power TVS Diode, bidirectional, 3000 W, 11 VDC; partNo: 824551111; Manufacturer: Wurth Elektronik; ComponentLink1Description: Manufacturer; ComponentLink1URL: http://www.we-online.de; Created by: Baojun Chen; Created Date: Nov.2015; ComponentLink2Description: Datasheet; ComponentLink2URL: http://katalog.we-online.de/pbs/datasheet/824551111.pdf
footprint DO-214AB_Bidirectional
pins: 1, 2

## WE-TVSP DO-214AB, 824551121
designator D?, comment Bidirectional, 3000 W, 12 VDC
WE-TVSP Power TVS Diode, bidirectional, 3000 W, 12 VDC; partNo: 824551121; Manufacturer: Wurth Elektronik; ComponentLink1Description: Manufacturer; ComponentLink1URL: http://www.we-online.de; Created by: Baojun Chen; Created Date: Nov.2015; ComponentLink2Description: Datasheet; ComponentLink2URL: http://katalog.we-online.de/pbs/datasheet/824551121.pdf
footprint DO-214AB_Bidirectional
pins: 1, 2